# Altium integrated library MCP6401RT-E_OT.IntLib: 1 symbol
Pins are listed as number, name and electrical type; pins without a type are passive.

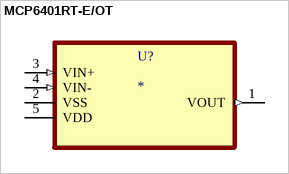
[diagram p0: symbol MCP6401RT-E/OT]

## MCP6401RT-E/OT
designator U?
IC, OP-AMP, 1MHZ, 0.5V/Âµs; MP: MCP6401RT-E/OT; Package: None; Price: None; Value: *; Availability: Unavailable
footprint SOT95P320X145-5N
pins: 1 VOUT (out), 2 VSS, 3 VIN+ (in), 4 VIN- (in), 5 VDD (power)